# Altium footprint library TI - ADC.PcbLib: 213 footprints (part 6 of 14)
Each footprint in its own frame and in the unit in brackets; x right, y up, seen from the top. Pads: shape width x height; smd on the part's side, far side on the other; paste and mask are expansions set on the pad; w line width, h text height; cw(c..) or ccw(c..) is an arc to the next point about the centre after c.
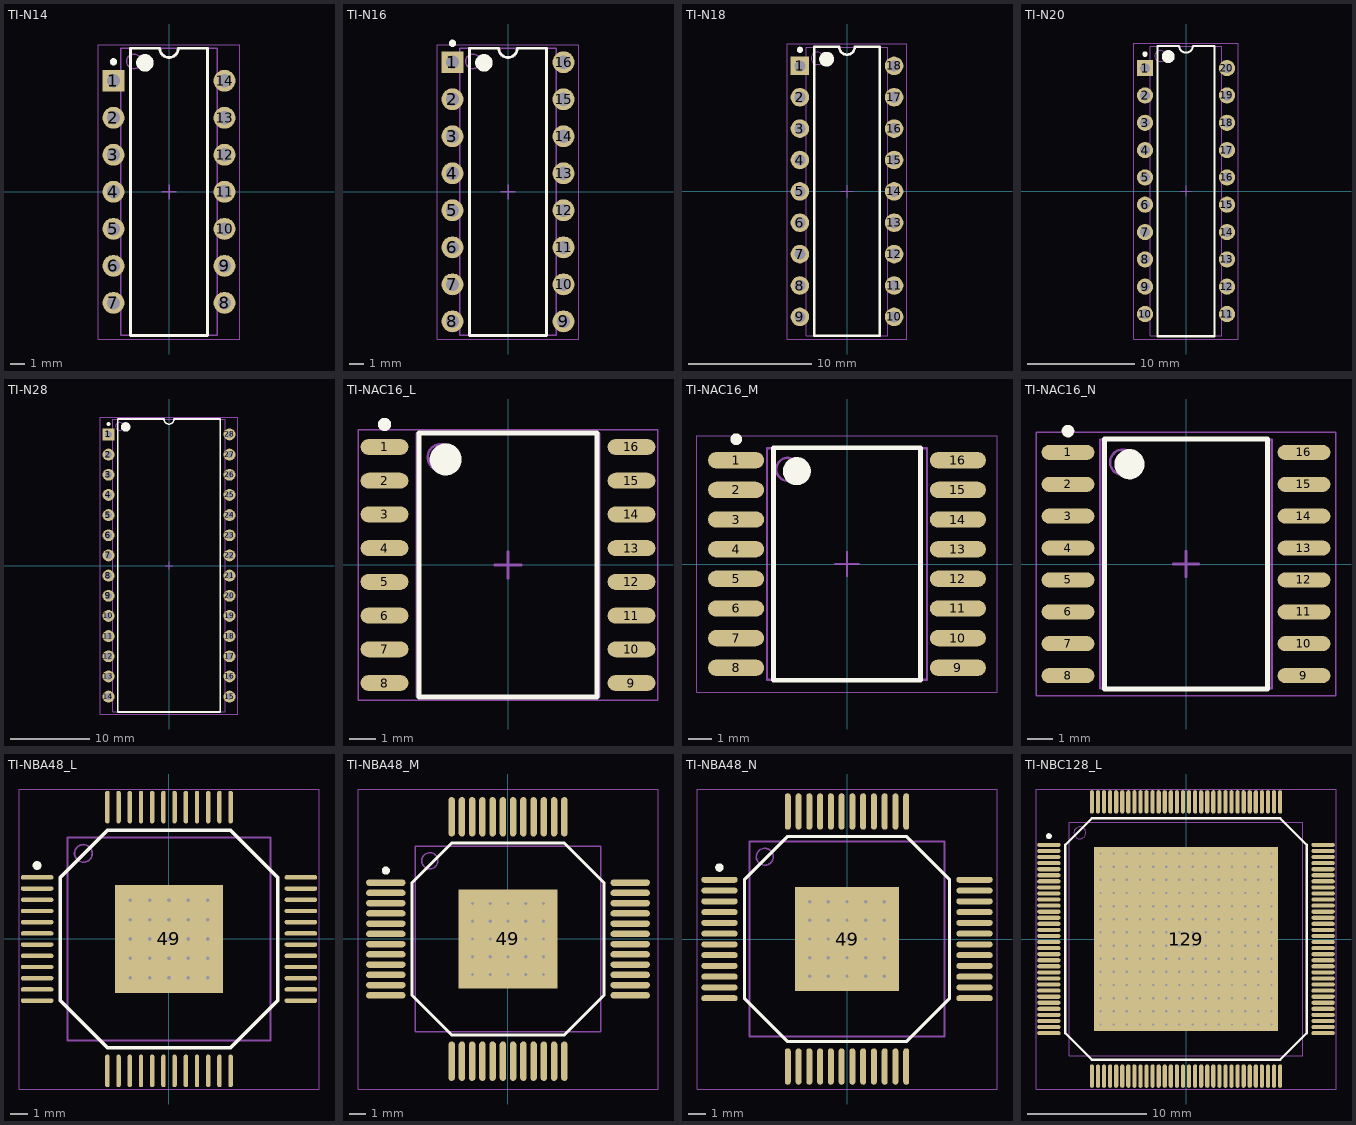
[diagram p5: the footprints below, top view; thin cyan lines are the x and y axes]

## TI-N14 [mm] "DIP, 14-Leads, Body 19.305x6.35mm, Pitch 2.54mm"
height 5.08
pads (14):
  rect 1.5x1.5 hole 0.9: 1(-3.81,7.62)
  round 1.5 hole 0.9: 2(-3.81,5.08) 3(-3.81,2.54) 4(-3.81,0) 5(-3.81,-2.54) 6(-3.81,-5.08) 7(-3.81,-7.62) 8(3.81,-7.62) 9(3.81,-5.08) 10(3.81,-2.54) 11(3.81,0) 12(3.81,2.54) 13(3.81,5.08) 14(3.81,7.62)
Top Overlay:
  circle w0.25: c-3.81,8.92 r0.125
  circle w0.6: c-1.65,8.85 r0.3
  lines w0.2: -2.65,-9.85 -2.65,9.85 -0.635,9.85 ccw(c0,9.85) 0.635,9.85 2.65,9.85 2.65,-9.85 -2.65,-9.85
Mechanical 13:
  circle w0.1: c-2.4,8.95 r0.5
  lines w0.1: -3.3,-9.85 -3.3,9.85 3.3,9.85 3.3,-9.85 -3.3,-9.85
Mechanical 15:
  lines w0.05: -4.85,-10.1 -4.85,10.1 4.85,10.1 4.85,-10.1 -4.85,-10.1
  lines w0.1: -0.5,0 0.5,0 ; 0,-0.5 0,0.5
3D body: height 5.08, standoff 0.51, extent -3.3,-9.85 3.3,9.85

## TI-N16 [mm] "DIP, 16-Leads, Body 19.305x6.35mm, Pitch 2.54mm"
height 5.08
pads (16):
  rect 1.5x1.5 hole 0.9: 1(-3.81,8.89)
  round 1.5 hole 0.9: 2(-3.81,6.35) 3(-3.81,3.81) 4(-3.81,1.27) 5(-3.81,-1.27) 6(-3.81,-3.81) 7(-3.81,-6.35) 8(-3.81,-8.89) 9(3.81,-8.89) 10(3.81,-6.35) 11(3.81,-3.81) 12(3.81,-1.27) 13(3.81,1.27) 14(3.81,3.81) 15(3.81,6.35) 16(3.81,8.89)
Top Overlay:
  circle w0.25: c-3.81,10.19 r0.125
  circle w0.6: c-1.65,8.85 r0.3
  lines w0.2: -2.65,-9.85 -2.65,9.85 -0.635,9.85 ccw(c0,9.85) 0.635,9.85 2.65,9.85 2.65,-9.85 -2.65,-9.85
Mechanical 13:
  circle w0.1: c-2.4,8.95 r0.5
  lines w0.1: -3.3,-9.85 -3.3,9.85 3.3,9.85 3.3,-9.85 -3.3,-9.85
Mechanical 15:
  lines w0.05: -4.85,-10.1 -4.85,10.1 4.85,10.1 4.85,-10.1 -4.85,-10.1
  lines w0.1: -0.5,0 0.5,0 ; 0,-0.5 0,0.5
3D body: height 2.66, standoff 0, extent -3.945,8.39 -3.675,9.39
3D body: height 2.93, standoff 2.66, extent -3.945,8.39 -3.3,9.39
3D body: height 0, standoff -1.6, extent -3.945,8.53 -3.675,9.25
3D body: height 2.66, standoff 0, extent -3.945,5.85 -3.675,6.85
3D body: height 2.93, standoff 2.66, extent -3.945,5.85 -3.3,6.85
3D body: height 0, standoff -1.6, extent -3.945,5.99 -3.675,6.71
3D body: height 2.66, standoff 0, extent -3.945,3.31 -3.675,4.31
3D body: height 2.93, standoff 2.66, extent -3.945,3.31 -3.3,4.31
3D body: height 0, standoff -1.6, extent -3.945,3.45 -3.675,4.17
3D body: height 2.66, standoff 0, extent -3.945,0.77 -3.675,1.77
3D body: height 2.93, standoff 2.66, extent -3.945,0.77 -3.3,1.77
3D body: height 0, standoff -1.6, extent -3.945,0.91 -3.675,1.63
3D body: height 2.66, standoff 0, extent -3.945,-1.77 -3.675,-0.77
3D body: height 2.93, standoff 2.66, extent -3.945,-1.77 -3.3,-0.77
3D body: height 0, standoff -1.6, extent -3.945,-1.63 -3.675,-0.91
3D body: height 2.66, standoff 0, extent -3.945,-4.31 -3.675,-3.31
3D body: height 2.93, standoff 2.66, extent -3.945,-4.31 -3.3,-3.31
3D body: height 0, standoff -1.6, extent -3.945,-4.17 -3.675,-3.45
3D body: height 2.66, standoff 0, extent -3.945,-6.85 -3.675,-5.85
3D body: height 2.93, standoff 2.66, extent -3.945,-6.85 -3.3,-5.85
3D body: height 0, standoff -1.6, extent -3.945,-6.71 -3.675,-5.99
3D body: height 2.66, standoff 0, extent -3.945,-9.39 -3.675,-8.39
3D body: height 2.93, standoff 2.66, extent -3.945,-9.39 -3.3,-8.39
3D body: height 0, standoff -1.6, extent -3.945,-9.25 -3.675,-8.53
3D body: height 2.66, standoff 0, extent 3.675,-9.39 3.945,-8.39
3D body: height 2.93, standoff 2.66, extent 3.3,-9.39 3.945,-8.39
3D body: height 0, standoff -1.6, extent 3.675,-9.25 3.945,-8.53
3D body: height 2.66, standoff 0, extent 3.675,-6.85 3.945,-5.85
3D body: height 2.93, standoff 2.66, extent 3.3,-6.85 3.945,-5.85
3D body: height 0, standoff -1.6, extent 3.675,-6.71 3.945,-5.99
3D body: height 2.66, standoff 0, extent 3.675,-4.31 3.945,-3.31
3D body: height 2.93, standoff 2.66, extent 3.3,-4.31 3.945,-3.31
3D body: height 0, standoff -1.6, extent 3.675,-4.17 3.945,-3.45
3D body: height 2.66, standoff 0, extent 3.675,-1.77 3.945,-0.77
3D body: height 2.93, standoff 2.66, extent 3.3,-1.77 3.945,-0.77
3D body: height 0, standoff -1.6, extent 3.675,-1.63 3.945,-0.91
3D body: height 2.66, standoff 0, extent 3.675,0.77 3.945,1.77
3D body: height 2.93, standoff 2.66, extent 3.3,0.77 3.945,1.77
3D body: height 0, standoff -1.6, extent 3.675,0.91 3.945,1.63
3D body: height 2.66, standoff 0, extent 3.675,3.31 3.945,4.31
3D body: height 2.93, standoff 2.66, extent 3.3,3.31 3.945,4.31
3D body: height 0, standoff -1.6, extent 3.675,3.45 3.945,4.17
3D body: height 2.66, standoff 0, extent 3.675,5.85 3.945,6.85
3D body: height 2.93, standoff 2.66, extent 3.3,5.85 3.945,6.85
3D body: height 0, standoff -1.6, extent 3.675,5.99 3.945,6.71
3D body: height 2.66, standoff 0, extent 3.675,8.39 3.945,9.39
3D body: height 2.93, standoff 2.66, extent 3.3,8.39 3.945,9.39
3D body: height 0, standoff -1.6, extent 3.675,8.53 3.945,9.25
3D body: height 5.08, standoff 0.51, extent -3.3,-9.85 3.3,9.85

## TI-N18 [mm] "DIP, 18-Leads, Body 22.48x6.35 mm, Pitch 2.54 mm"
height 5.08
pads (18):
  rect 1.5x1.5 hole 0.9: 1(-3.81,10.16)
  round 1.5 hole 0.9: 2(-3.81,7.62) 3(-3.81,5.08) 4(-3.81,2.54) 5(-3.81,0) 6(-3.81,-2.54) 7(-3.81,-5.08) 8(-3.81,-7.62) 9(-3.81,-10.16) 10(3.81,-10.16) 11(3.81,-7.62) 12(3.81,-5.08) 13(3.81,-2.54) 14(3.81,0) 15(3.81,2.54) 16(3.81,5.08) 17(3.81,7.62) 18(3.81,10.16)
Top Overlay:
  circle w0.6: c-1.65,10.7 r0.3
  circle w0.25: c-3.81,11.46 r0.125
  lines w0.2: -2.65,-11.7 2.65,-11.7 2.65,11.7 0.635,11.7 cw(c0,11.7) -0.635,11.7 -2.65,11.7 -2.65,-11.7
Mechanical 13:
  circle w0.1: c-2.4,10.775 r0.5
  lines w0.1: -3.3,-11.675 3.3,-11.675 3.3,11.675 -3.3,11.675 -3.3,-11.675
Mechanical 15:
  lines w0.05: -4.85,-11.95 4.85,-11.95 4.85,11.95 -4.85,11.95 -4.85,-11.95
  lines w0.1: -0.5,0 0.5,0 ; 0,-0.5 0,0.5
3D body: height 5.08, standoff 0.51, extent -3.3,-11.675 3.3,11.675
3D body: height 0, standoff -1.6, extent 3.675,9.8 3.945,10.52
3D body: height 2.93, standoff 2.66, extent 3.3,9.66 3.945,10.66
3D body: height 2.66, standoff 0, extent 3.675,9.66 3.945,10.66
3D body: height 0, standoff -1.6, extent 3.675,7.26 3.945,7.98
3D body: height 2.93, standoff 2.66, extent 3.3,7.12 3.945,8.12
3D body: height 2.66, standoff 0, extent 3.675,7.12 3.945,8.12
3D body: height 0, standoff -1.6, extent 3.675,4.72 3.945,5.44
3D body: height 2.93, standoff 2.66, extent 3.3,4.58 3.945,5.58
3D body: height 2.66, standoff 0, extent 3.675,4.58 3.945,5.58
3D body: height 0, standoff -1.6, extent 3.675,2.18 3.945,2.9
3D body: height 2.93, standoff 2.66, extent 3.3,2.04 3.945,3.04
3D body: height 2.66, standoff 0, extent 3.675,2.04 3.945,3.04
3D body: height 0, standoff -1.6, extent 3.675,-0.36 3.945,0.36
3D body: height 2.93, standoff 2.66, extent 3.3,-0.5 3.945,0.5
3D body: height 2.66, standoff 0, extent 3.675,-0.5 3.945,0.5
3D body: height 0, standoff -1.6, extent 3.675,-2.9 3.945,-2.18
3D body: height 2.93, standoff 2.66, extent 3.3,-3.04 3.945,-2.04
3D body: height 2.66, standoff 0, extent 3.675,-3.04 3.945,-2.04
3D body: height 0, standoff -1.6, extent 3.675,-5.44 3.945,-4.72
3D body: height 2.93, standoff 2.66, extent 3.3,-5.58 3.945,-4.58
3D body: height 2.66, standoff 0, extent 3.675,-5.58 3.945,-4.58
3D body: height 0, standoff -1.6, extent 3.675,-7.98 3.945,-7.26
3D body: height 2.93, standoff 2.66, extent 3.3,-8.12 3.945,-7.12
3D body: height 2.66, standoff 0, extent 3.675,-8.12 3.945,-7.12
3D body: height 0, standoff -1.6, extent 3.675,-10.52 3.945,-9.8
3D body: height 2.93, standoff 2.66, extent 3.3,-10.66 3.945,-9.66
3D body: height 2.66, standoff 0, extent 3.675,-10.66 3.945,-9.66
3D body: height 0, standoff -1.6, extent -3.945,-10.52 -3.675,-9.8
3D body: height 2.93, standoff 2.66, extent -3.945,-10.66 -3.3,-9.66
3D body: height 2.66, standoff 0, extent -3.945,-10.66 -3.675,-9.66
3D body: height 0, standoff -1.6, extent -3.945,-7.98 -3.675,-7.26
3D body: height 2.93, standoff 2.66, extent -3.945,-8.12 -3.3,-7.12
3D body: height 2.66, standoff 0, extent -3.945,-8.12 -3.675,-7.12
3D body: height 0, standoff -1.6, extent -3.945,-5.44 -3.675,-4.72
3D body: height 2.93, standoff 2.66, extent -3.945,-5.58 -3.3,-4.58
3D body: height 2.66, standoff 0, extent -3.945,-5.58 -3.675,-4.58
3D body: height 0, standoff -1.6, extent -3.945,-2.9 -3.675,-2.18
3D body: height 2.93, standoff 2.66, extent -3.945,-3.04 -3.3,-2.04
3D body: height 2.66, standoff 0, extent -3.945,-3.04 -3.675,-2.04
3D body: height 0, standoff -1.6, extent -3.945,-0.36 -3.675,0.36
3D body: height 2.93, standoff 2.66, extent -3.945,-0.5 -3.3,0.5
3D body: height 2.66, standoff 0, extent -3.945,-0.5 -3.675,0.5
3D body: height 0, standoff -1.6, extent -3.945,2.18 -3.675,2.9
3D body: height 2.93, standoff 2.66, extent -3.945,2.04 -3.3,3.04
3D body: height 2.66, standoff 0, extent -3.945,2.04 -3.675,3.04
3D body: height 0, standoff -1.6, extent -3.945,4.72 -3.675,5.44
3D body: height 2.93, standoff 2.66, extent -3.945,4.58 -3.3,5.58
3D body: height 2.66, standoff 0, extent -3.945,4.58 -3.675,5.58
3D body: height 0, standoff -1.6, extent -3.945,7.26 -3.675,7.98
3D body: height 2.93, standoff 2.66, extent -3.945,7.12 -3.3,8.12
3D body: height 2.66, standoff 0, extent -3.945,7.12 -3.675,8.12
3D body: height 0, standoff -1.6, extent -3.945,9.8 -3.675,10.52
3D body: height 2.93, standoff 2.66, extent -3.945,9.66 -3.3,10.66
3D body: height 2.66, standoff 0, extent -3.945,9.66 -3.675,10.66

## TI-N20 [mm] "DIP, 20-Leads, Body 25.4x6.35 mm, Pitch 2.54 mm"
height 5.08
pads (20):
  rect 1.5x1.5 hole 0.9: 1(-3.81,11.43)
  round 1.5 hole 0.9: 2(-3.81,8.89) 3(-3.81,6.35) 4(-3.81,3.81) 5(-3.81,1.27) 6(-3.81,-1.27) 7(-3.81,-3.81) 8(-3.81,-6.35) 9(-3.81,-8.89) 10(-3.81,-11.43) 11(3.81,-11.43) 12(3.81,-8.89) 13(3.81,-6.35) 14(3.81,-3.81) 15(3.81,-1.27) 16(3.81,1.27) 17(3.81,3.81) 18(3.81,6.35) 19(3.81,8.89) 20(3.81,11.43)
Top Overlay:
  circle w0.25: c-3.81,12.73 r0.125
  circle w0.6: c-1.65,12.5 r0.3
  lines w0.2: -2.65,-13.5 -2.65,13.5 -0.635,13.5 ccw(c0,13.5) 0.635,13.5 2.65,13.5 2.65,-13.5 -2.65,-13.5
Mechanical 13:
  circle w0.1: c-2.4,12.55 r0.5
  lines w0.1: -3.3,-13.45 -3.3,13.45 3.3,13.45 3.3,-13.45 -3.3,-13.45
Mechanical 15:
  lines w0.05: -4.85,-13.75 -4.85,13.75 4.85,13.75 4.85,-13.75 -4.85,-13.75
  lines w0.1: -0.5,0 0.5,0 ; 0,-0.5 0,0.5
3D body: height 2.66, standoff 0, extent -3.945,10.93 -3.675,11.93
3D body: height 2.93, standoff 2.66, extent -3.945,10.93 -3.3,11.93
3D body: height 0, standoff -1.6, extent -3.945,11.07 -3.675,11.79
3D body: height 2.66, standoff 0, extent -3.945,8.39 -3.675,9.39
3D body: height 2.93, standoff 2.66, extent -3.945,8.39 -3.3,9.39
3D body: height 0, standoff -1.6, extent -3.945,8.53 -3.675,9.25
3D body: height 2.66, standoff 0, extent -3.945,5.85 -3.675,6.85
3D body: height 2.93, standoff 2.66, extent -3.945,5.85 -3.3,6.85
3D body: height 0, standoff -1.6, extent -3.945,5.99 -3.675,6.71
3D body: height 2.66, standoff 0, extent -3.945,3.31 -3.675,4.31
3D body: height 2.93, standoff 2.66, extent -3.945,3.31 -3.3,4.31
3D body: height 0, standoff -1.6, extent -3.945,3.45 -3.675,4.17
3D body: height 2.66, standoff 0, extent -3.945,0.77 -3.675,1.77
3D body: height 2.93, standoff 2.66, extent -3.945,0.77 -3.3,1.77
3D body: height 0, standoff -1.6, extent -3.945,0.91 -3.675,1.63
3D body: height 2.66, standoff 0, extent -3.945,-1.77 -3.675,-0.77
3D body: height 2.93, standoff 2.66, extent -3.945,-1.77 -3.3,-0.77
3D body: height 0, standoff -1.6, extent -3.945,-1.63 -3.675,-0.91
3D body: height 2.66, standoff 0, extent -3.945,-4.31 -3.675,-3.31
3D body: height 2.93, standoff 2.66, extent -3.945,-4.31 -3.3,-3.31
3D body: height 0, standoff -1.6, extent -3.945,-4.17 -3.675,-3.45
3D body: height 2.66, standoff 0, extent -3.945,-6.85 -3.675,-5.85
3D body: height 2.93, standoff 2.66, extent -3.945,-6.85 -3.3,-5.85
3D body: height 0, standoff -1.6, extent -3.945,-6.71 -3.675,-5.99
3D body: height 2.66, standoff 0, extent -3.945,-9.39 -3.675,-8.39
3D body: height 2.93, standoff 2.66, extent -3.945,-9.39 -3.3,-8.39
3D body: height 0, standoff -1.6, extent -3.945,-9.25 -3.675,-8.53
3D body: height 2.66, standoff 0, extent -3.945,-11.93 -3.675,-10.93
3D body: height 2.93, standoff 2.66, extent -3.945,-11.93 -3.3,-10.93
3D body: height 0, standoff -1.6, extent -3.945,-11.79 -3.675,-11.07
3D body: height 2.66, standoff 0, extent 3.675,-11.93 3.945,-10.93
3D body: height 2.93, standoff 2.66, extent 3.3,-11.93 3.945,-10.93
3D body: height 0, standoff -1.6, extent 3.675,-11.79 3.945,-11.07
3D body: height 2.66, standoff 0, extent 3.675,-9.39 3.945,-8.39
3D body: height 2.93, standoff 2.66, extent 3.3,-9.39 3.945,-8.39
3D body: height 0, standoff -1.6, extent 3.675,-9.25 3.945,-8.53
3D body: height 2.66, standoff 0, extent 3.675,-6.85 3.945,-5.85
3D body: height 2.93, standoff 2.66, extent 3.3,-6.85 3.945,-5.85
3D body: height 0, standoff -1.6, extent 3.675,-6.71 3.945,-5.99
3D body: height 2.66, standoff 0, extent 3.675,-4.31 3.945,-3.31
3D body: height 2.93, standoff 2.66, extent 3.3,-4.31 3.945,-3.31
3D body: height 0, standoff -1.6, extent 3.675,-4.17 3.945,-3.45
3D body: height 2.66, standoff 0, extent 3.675,-1.77 3.945,-0.77
3D body: height 2.93, standoff 2.66, extent 3.3,-1.77 3.945,-0.77
3D body: height 0, standoff -1.6, extent 3.675,-1.63 3.945,-0.91
3D body: height 2.66, standoff 0, extent 3.675,0.77 3.945,1.77
3D body: height 2.93, standoff 2.66, extent 3.3,0.77 3.945,1.77
3D body: height 0, standoff -1.6, extent 3.675,0.91 3.945,1.63
3D body: height 2.66, standoff 0, extent 3.675,3.31 3.945,4.31
3D body: height 2.93, standoff 2.66, extent 3.3,3.31 3.945,4.31
3D body: height 0, standoff -1.6, extent 3.675,3.45 3.945,4.17
3D body: height 2.66, standoff 0, extent 3.675,5.85 3.945,6.85
3D body: height 2.93, standoff 2.66, extent 3.3,5.85 3.945,6.85
3D body: height 0, standoff -1.6, extent 3.675,5.99 3.945,6.71
3D body: height 2.66, standoff 0, extent 3.675,8.39 3.945,9.39
3D body: height 2.93, standoff 2.66, extent 3.3,8.39 3.945,9.39
3D body: height 0, standoff -1.6, extent 3.675,8.53 3.945,9.25
3D body: height 2.66, standoff 0, extent 3.675,10.93 3.945,11.93
3D body: height 2.93, standoff 2.66, extent 3.3,10.93 3.945,11.93
3D body: height 0, standoff -1.6, extent 3.675,11.07 3.945,11.79
3D body: height 5.08, standoff 0.51, extent -3.3,-13.45 3.3,13.45

## TI-N28 [mm] "DIP, 28-Leads, Body 36.32x13.715 mm, Pitch 2.54 mm"
height 5.08
pads (28):
  rect 1.5x1.5 hole 0.9: 1(-7.62,16.51)
  round 1.5 hole 0.9: 2(-7.62,13.97) 3(-7.62,11.43) 4(-7.62,8.89) 5(-7.62,6.35) 6(-7.62,3.81) 7(-7.62,1.27) 8(-7.62,-1.27) 9(-7.62,-3.81) 10(-7.62,-6.35) 11(-7.62,-8.89) 12(-7.62,-11.43) 13(-7.62,-13.97) 14(-7.62,-16.51) 15(7.62,-16.51) 16(7.62,-13.97) 17(7.62,-11.43) 18(7.62,-8.89) 19(7.62,-6.35) 20(7.62,-3.81) 21(7.62,-1.27) 22(7.62,1.27) 23(7.62,3.81) 24(7.62,6.35) 25(7.62,8.89) 26(7.62,11.43) 27(7.62,13.97) 28(7.62,16.51)
Top Overlay:
  circle w0.25: c-7.62,17.81 r0.125
  circle w0.6: c-5.45,17.45 r0.3
  lines w0.2: -6.45,-18.45 -6.45,18.45 -0.635,18.45 ccw(c0,18.45) 0.635,18.45 6.45,18.45 6.45,-18.45 -6.45,-18.45
Mechanical 13:
  circle w0.1: c-6.2,17.525 r0.5
  lines w0.1: -7.1,-18.425 -7.1,18.425 7.1,18.425 7.1,-18.425 -7.1,-18.425
Mechanical 15:
  lines w0.05: -8.65,-18.7 -8.65,18.7 8.65,18.7 8.65,-18.7 -8.65,-18.7
  lines w0.1: -0.5,0 0.5,0 ; 0,-0.5 0,0.5
3D body: height 2.66, standoff 0, extent -7.755,16.01 -7.485,17.01
3D body: height 2.93, standoff 2.66, extent -7.755,16.01 -7.1,17.01
3D body: height 0, standoff -1.6, extent -7.755,16.15 -7.485,16.87
3D body: height 2.66, standoff 0, extent -7.755,13.47 -7.485,14.47
3D body: height 2.93, standoff 2.66, extent -7.755,13.47 -7.1,14.47
3D body: height 0, standoff -1.6, extent -7.755,13.61 -7.485,14.33
3D body: height 2.66, standoff 0, extent -7.755,10.93 -7.485,11.93
3D body: height 2.93, standoff 2.66, extent -7.755,10.93 -7.1,11.93
3D body: height 0, standoff -1.6, extent -7.755,11.07 -7.485,11.79
3D body: height 2.66, standoff 0, extent -7.755,8.39 -7.485,9.39
3D body: height 2.93, standoff 2.66, extent -7.755,8.39 -7.1,9.39
3D body: height 0, standoff -1.6, extent -7.755,8.53 -7.485,9.25
3D body: height 2.66, standoff 0, extent -7.755,5.85 -7.485,6.85
3D body: height 2.93, standoff 2.66, extent -7.755,5.85 -7.1,6.85
3D body: height 0, standoff -1.6, extent -7.755,5.99 -7.485,6.71
3D body: height 2.66, standoff 0, extent -7.755,3.31 -7.485,4.31
3D body: height 2.93, standoff 2.66, extent -7.755,3.31 -7.1,4.31
3D body: height 0, standoff -1.6, extent -7.755,3.45 -7.485,4.17
3D body: height 2.66, standoff 0, extent -7.755,0.77 -7.485,1.77
3D body: height 2.93, standoff 2.66, extent -7.755,0.77 -7.1,1.77
3D body: height 0, standoff -1.6, extent -7.755,0.91 -7.485,1.63
3D body: height 2.66, standoff 0, extent -7.755,-1.77 -7.485,-0.77
3D body: height 2.93, standoff 2.66, extent -7.755,-1.77 -7.1,-0.77
3D body: height 0, standoff -1.6, extent -7.755,-1.63 -7.485,-0.91
3D body: height 2.66, standoff 0, extent -7.755,-4.31 -7.485,-3.31
3D body: height 2.93, standoff 2.66, extent -7.755,-4.31 -7.1,-3.31
3D body: height 0, standoff -1.6, extent -7.755,-4.17 -7.485,-3.45
3D body: height 2.66, standoff 0, extent -7.755,-6.85 -7.485,-5.85
3D body: height 2.93, standoff 2.66, extent -7.755,-6.85 -7.1,-5.85
3D body: height 0, standoff -1.6, extent -7.755,-6.71 -7.485,-5.99
3D body: height 2.66, standoff 0, extent -7.755,-9.39 -7.485,-8.39
3D body: height 2.93, standoff 2.66, extent -7.755,-9.39 -7.1,-8.39
3D body: height 0, standoff -1.6, extent -7.755,-9.25 -7.485,-8.53
3D body: height 2.66, standoff 0, extent -7.755,-11.93 -7.485,-10.93
3D body: height 2.93, standoff 2.66, extent -7.755,-11.93 -7.1,-10.93
3D body: height 0, standoff -1.6, extent -7.755,-11.79 -7.485,-11.07
3D body: height 2.66, standoff 0, extent -7.755,-14.47 -7.485,-13.47
3D body: height 2.93, standoff 2.66, extent -7.755,-14.47 -7.1,-13.47
3D body: height 0, standoff -1.6, extent -7.755,-14.33 -7.485,-13.61
3D body: height 2.66, standoff 0, extent -7.755,-17.01 -7.485,-16.01
3D body: height 2.93, standoff 2.66, extent -7.755,-17.01 -7.1,-16.01
3D body: height 0, standoff -1.6, extent -7.755,-16.87 -7.485,-16.15
3D body: height 2.66, standoff 0, extent 7.485,-17.01 7.755,-16.01
3D body: height 2.93, standoff 2.66, extent 7.1,-17.01 7.755,-16.01
3D body: height 0, standoff -1.6, extent 7.485,-16.87 7.755,-16.15
3D body: height 2.66, standoff 0, extent 7.485,-14.47 7.755,-13.47
3D body: height 2.93, standoff 2.66, extent 7.1,-14.47 7.755,-13.47
3D body: height 0, standoff -1.6, extent 7.485,-14.33 7.755,-13.61
3D body: height 2.66, standoff 0, extent 7.485,-11.93 7.755,-10.93
3D body: height 2.93, standoff 2.66, extent 7.1,-11.93 7.755,-10.93
3D body: height 0, standoff -1.6, extent 7.485,-11.79 7.755,-11.07
3D body: height 2.66, standoff 0, extent 7.485,-9.39 7.755,-8.39
3D body: height 2.93, standoff 2.66, extent 7.1,-9.39 7.755,-8.39
3D body: height 0, standoff -1.6, extent 7.485,-9.25 7.755,-8.53
3D body: height 2.66, standoff 0, extent 7.485,-6.85 7.755,-5.85
3D body: height 2.93, standoff 2.66, extent 7.1,-6.85 7.755,-5.85
3D body: height 0, standoff -1.6, extent 7.485,-6.71 7.755,-5.99
3D body: height 2.66, standoff 0, extent 7.485,-4.31 7.755,-3.31
3D body: height 2.93, standoff 2.66, extent 7.1,-4.31 7.755,-3.31
3D body: height 0, standoff -1.6, extent 7.485,-4.17 7.755,-3.45
3D body: height 2.66, standoff 0, extent 7.485,-1.77 7.755,-0.77
3D body: height 2.93, standoff 2.66, extent 7.1,-1.77 7.755,-0.77
3D body: height 0, standoff -1.6, extent 7.485,-1.63 7.755,-0.91
3D body: height 2.66, standoff 0, extent 7.485,0.77 7.755,1.77
3D body: height 2.93, standoff 2.66, extent 7.1,0.77 7.755,1.77
3D body: height 0, standoff -1.6, extent 7.485,0.91 7.755,1.63
3D body: height 2.66, standoff 0, extent 7.485,3.31 7.755,4.31
3D body: height 2.93, standoff 2.66, extent 7.1,3.31 7.755,4.31
3D body: height 0, standoff -1.6, extent 7.485,3.45 7.755,4.17
3D body: height 2.66, standoff 0, extent 7.485,5.85 7.755,6.85
3D body: height 2.93, standoff 2.66, extent 7.1,5.85 7.755,6.85
3D body: height 0, standoff -1.6, extent 7.485,5.99 7.755,6.71
3D body: height 2.66, standoff 0, extent 7.485,8.39 7.755,9.39
3D body: height 2.93, standoff 2.66, extent 7.1,8.39 7.755,9.39
3D body: height 0, standoff -1.6, extent 7.485,8.53 7.755,9.25
3D body: height 2.66, standoff 0, extent 7.485,10.93 7.755,11.93
3D body: height 2.93, standoff 2.66, extent 7.1,10.93 7.755,11.93
3D body: height 0, standoff -1.6, extent 7.485,11.07 7.755,11.79
3D body: height 2.66, standoff 0, extent 7.485,13.47 7.755,14.47
3D body: height 2.93, standoff 2.66, extent 7.1,13.47 7.755,14.47
3D body: height 0, standoff -1.6, extent 7.485,13.61 7.755,14.33
3D body: height 2.66, standoff 0, extent 7.485,16.01 7.755,17.01
3D body: height 2.93, standoff 2.66, extent 7.1,16.01 7.755,17.01
3D body: height 0, standoff -1.6, extent 7.485,16.15 7.755,16.87
3D body: height 5.08, standoff 0.51, extent -7.1,-18.425 7.1,18.425

## TI-NAC16_L [mm] "CFP, 16-Leads, Body 9.91x6.35mm, Pitch 1.27mm, IPC High Density"
height 2.13
pads (16):
  oval 1.8x0.6 smd: 1(-4.65,4.445) 2(-4.65,3.175) 3(-4.65,1.905) 4(-4.65,0.635) 5(-4.65,-0.635) 6(-4.65,-1.905) 7(-4.65,-3.175) 8(-4.65,-4.445) 9(4.65,-4.445) 10(4.65,-3.175) 11(4.65,-1.905) 12(4.65,-0.635) 13(4.65,0.635) 14(4.65,1.905) 15(4.65,3.175) 16(4.65,4.445)
Top Overlay:
  circle w0.6: c-2.35,3.975 r0.3
  circle w0.25: c-4.65,5.295 r0.125
  lines w0.2: -3.35,-4.975 -3.35,4.975 3.35,4.975 3.35,-4.975 -3.35,-4.975
Mechanical 13:
  circle w0.1: c-2.525,4.055 r0.5
  lines w0.1: -3.425,-4.955 -3.425,4.955 3.425,4.955 3.425,-4.955 -3.425,-4.955
Mechanical 15:
  lines w0.05: -5.65,-5.1 -5.65,5.1 5.65,5.1 5.65,-5.1 -5.65,-5.1
  lines w0.1: -0.5,0 0.5,0 ; 0,-0.5 0,0.5
3D body: height 2.13, standoff 0.1, extent -3.425,-4.955 3.425,4.955

## TI-NAC16_M [mm] "CFP, 16-Leads, Body 9.91x6.35mm, Pitch 1.27mm, IPC Low Density"
height 2.13
pads (16):
  oval 2.4x0.7 smd: 1(-4.75,4.445) 2(-4.75,3.175) 3(-4.75,1.905) 4(-4.75,0.635) 5(-4.75,-0.635) 6(-4.75,-1.905) 7(-4.75,-3.175) 8(-4.75,-4.445) 9(4.75,-4.445) 10(4.75,-3.175) 11(4.75,-1.905) 12(4.75,-0.635) 13(4.75,0.635) 14(4.75,1.905) 15(4.75,3.175) 16(4.75,4.445)
Top Overlay:
  circle w0.25: c-4.75,5.345 r0.125
  circle w0.6: c-2.15,3.975 r0.3
  lines w0.2: -3.15,-4.975 3.15,-4.975 3.15,4.975 -3.15,4.975 -3.15,-4.975
Mechanical 13:
  circle w0.1: c-2.525,4.055 r0.5
  lines w0.1: -3.425,-4.955 3.425,-4.955 3.425,4.955 -3.425,4.955 -3.425,-4.955
Mechanical 15:
  lines w0.05: -6.425,-5.5 6.425,-5.5 6.425,5.5 -6.425,5.5 -6.425,-5.5
  lines w0.1: -0.5,0 0.5,0 ; 0,-0.5 0,0.5
3D body: height 2.13, standoff 0.1, extent -3.425,-4.955 3.425,4.955

## TI-NAC16_N [mm] "CFP, 16-Leads, Body 9.91x6.35mm, Pitch 1.27mm, IPC Medium Density"
height 2.13
pads (16):
  oval 2.1x0.6 smd: 1(-4.7,4.445) 2(-4.7,3.175) 3(-4.7,1.905) 4(-4.7,0.635) 5(-4.7,-0.635) 6(-4.7,-1.905) 7(-4.7,-3.175) 8(-4.7,-4.445) 9(4.7,-4.445) 10(4.7,-3.175) 11(4.7,-1.905) 12(4.7,-0.635) 13(4.7,0.635) 14(4.7,1.905) 15(4.7,3.175) 16(4.7,4.445)
Top Overlay:
  circle w0.25: c-4.7,5.295 r0.125
  circle w0.6: c-2.25,3.975 r0.3
  lines w0.2: -3.25,-4.975 3.25,-4.975 3.25,4.975 -3.25,4.975 -3.25,-4.975
Mechanical 13:
  circle w0.1: c-2.525,4.055 r0.5
  lines w0.1: -3.425,-4.955 3.425,-4.955 3.425,4.955 -3.425,4.955 -3.425,-4.955
Mechanical 15:
  lines w0.05: -5.975,-5.25 5.975,-5.25 5.975,5.25 -5.975,5.25 -5.975,-5.25
  lines w0.1: -0.5,0 0.5,0 ; 0,-0.5 0,0.5
3D body: height 2.13, standoff 0.1, extent -3.425,-4.955 3.425,4.955

## TI-NBA48_L [mm] "CQFP, 48-Leads, Body 11.5x11.5mm, Pitch 0.635mm, Thermal Pad 6.13x6.13mm, IPC High Density"
height 2.77
pads (49):
  oval 1.85x0.25 smd: 1(-7.475,3.492) 2(-7.475,2.857) 3(-7.475,2.222) 4(-7.475,1.587) 5(-7.475,0.953) 6(-7.475,0.318) 7(-7.475,-0.318) 8(-7.475,-0.953) 9(-7.475,-1.587) 10(-7.475,-2.222) 11(-7.475,-2.857) 12(-7.475,-3.492) 25(7.475,-3.492) 26(7.475,-2.857) 27(7.475,-2.222) 28(7.475,-1.587) 29(7.475,-0.953) 30(7.475,-0.318) 31(7.475,0.318) 32(7.475,0.953) 33(7.475,1.587) 34(7.475,2.222) 35(7.475,2.857) 36(7.475,3.492)
  oval 0.25x1.85 smd: 13(-3.492,-7.475) 14(-2.857,-7.475) 15(-2.222,-7.475) 16(-1.587,-7.475) 17(-0.953,-7.475) 18(-0.318,-7.475) 19(0.318,-7.475) 20(0.953,-7.475) 21(1.587,-7.475) 22(2.222,-7.475) 23(2.857,-7.475) 24(3.492,-7.475) 37(3.492,7.475) 38(2.857,7.475) 39(2.222,7.475) 40(1.587,7.475) 41(0.953,7.475) 42(0.318,7.475) 43(-0.318,7.475) 44(-0.953,7.475) 45(-1.587,7.475) 46(-2.222,7.475) 47(-2.857,7.475) 48(-3.492,7.475)
  rect 6.13x6.13 smd: 49(0,0)
via 2.2,-2.2 diameter 0.5 hole 0.2
via 1.1,-2.2 diameter 0.5 hole 0.2
via 0,-2.2 diameter 0.5 hole 0.2
via -1.1,-2.2 diameter 0.5 hole 0.2
via -2.2,-2.2 diameter 0.5 hole 0.2
via 2.2,-1.1 diameter 0.5 hole 0.2
via 1.1,-1.1 diameter 0.5 hole 0.2
via 0,-1.1 diameter 0.5 hole 0.2
via -1.1,-1.1 diameter 0.5 hole 0.2
via -2.2,-1.1 diameter 0.5 hole 0.2
via 2.2,0 diameter 0.5 hole 0.2
via 1.1,0 diameter 0.5 hole 0.2
via 0,0 diameter 0.5 hole 0.2
via -1.1,0 diameter 0.5 hole 0.2
via -2.2,0 diameter 0.5 hole 0.2
via 2.2,1.1 diameter 0.5 hole 0.2
via 1.1,1.1 diameter 0.5 hole 0.2
via 0,1.1 diameter 0.5 hole 0.2
via -1.1,1.1 diameter 0.5 hole 0.2
via -2.2,1.1 diameter 0.5 hole 0.2
via 2.2,2.2 diameter 0.5 hole 0.2
via 1.1,2.2 diameter 0.5 hole 0.2
via 0,2.2 diameter 0.5 hole 0.2
via -1.1,2.2 diameter 0.5 hole 0.2
via -2.2,2.2 diameter 0.5 hole 0.2
Top Overlay:
  circle w0.25: c-7.475,4.167 r0.125
  lines w0.2: -6.15,-3.495 -3.495,-6.15 3.495,-6.15 6.15,-3.495 6.15,3.495 3.495,6.15 -3.495,6.15 -6.15,3.495 -6.15,-3.495
Mechanical 13:
  circle w0.1: c-4.85,4.85 r0.5
  lines w0.1: -5.75,-5.75 5.75,-5.75 5.75,5.75 -5.75,5.75 -5.75,-5.75
Mechanical 15:
  lines w0.05: -8.5,-8.5 8.5,-8.5 8.5,8.5 -8.5,8.5 -8.5,-8.5
  lines w0.1: -0.5,0 0.5,0 ; 0,-0.5 0,0.5
3D body: height 2.77, standoff 0.32, extent -5.75,-5.75 5.75,5.75

## TI-NBA48_M [mm] "CQFP, 48-Leads, Body 11.5x11.5mm, Pitch 0.635mm, Thermal Pad 6.13x6.13mm, IPC Low Density"
height 2.77
pads (49):
  oval 2.45x0.4 smd: 1(-7.575,3.492) 2(-7.575,2.857) 3(-7.575,2.222) 4(-7.575,1.587) 5(-7.575,0.953) 6(-7.575,0.318) 7(-7.575,-0.318) 8(-7.575,-0.953) 9(-7.575,-1.587) 10(-7.575,-2.222) 11(-7.575,-2.857) 12(-7.575,-3.492) 25(7.575,-3.492) 26(7.575,-2.857) 27(7.575,-2.222) 28(7.575,-1.587) 29(7.575,-0.953) 30(7.575,-0.318) 31(7.575,0.318) 32(7.575,0.953) 33(7.575,1.587) 34(7.575,2.222) 35(7.575,2.857) 36(7.575,3.492)
  oval 0.4x2.45 smd: 13(-3.492,-7.575) 14(-2.857,-7.575) 15(-2.222,-7.575) 16(-1.587,-7.575) 17(-0.953,-7.575) 18(-0.318,-7.575) 19(0.318,-7.575) 20(0.953,-7.575) 21(1.587,-7.575) 22(2.222,-7.575) 23(2.857,-7.575) 24(3.492,-7.575) 37(3.492,7.575) 38(2.857,7.575) 39(2.222,7.575) 40(1.587,7.575) 41(0.953,7.575) 42(0.318,7.575) 43(-0.318,7.575) 44(-0.953,7.575) 45(-1.587,7.575) 46(-2.222,7.575) 47(-2.857,7.575) 48(-3.492,7.575)
  rect 6.13x6.13 smd: 49(0,0)
via 2.2,-2.2 diameter 0.5 hole 0.2
via 1.1,-2.2 diameter 0.5 hole 0.2
via 0,-2.2 diameter 0.5 hole 0.2
via -1.1,-2.2 diameter 0.5 hole 0.2
via -2.2,-2.2 diameter 0.5 hole 0.2
via 2.2,-1.1 diameter 0.5 hole 0.2
via 1.1,-1.1 diameter 0.5 hole 0.2
via 0,-1.1 diameter 0.5 hole 0.2
via -1.1,-1.1 diameter 0.5 hole 0.2
via -2.2,-1.1 diameter 0.5 hole 0.2
via 2.2,0 diameter 0.5 hole 0.2
via 1.1,0 diameter 0.5 hole 0.2
via 0,0 diameter 0.5 hole 0.2
via -1.1,0 diameter 0.5 hole 0.2
via -2.2,0 diameter 0.5 hole 0.2
via 2.2,1.1 diameter 0.5 hole 0.2
via 1.1,1.1 diameter 0.5 hole 0.2
via 0,1.1 diameter 0.5 hole 0.2
via -1.1,1.1 diameter 0.5 hole 0.2
via -2.2,1.1 diameter 0.5 hole 0.2
via 2.2,2.2 diameter 0.5 hole 0.2
via 1.1,2.2 diameter 0.5 hole 0.2
via 0,2.2 diameter 0.5 hole 0.2
via -1.1,2.2 diameter 0.5 hole 0.2
via -2.2,2.2 diameter 0.5 hole 0.2
Top Overlay:
  circle w0.25: c-7.575,4.242 r0.125
  lines w0.2: -5.95,-3.495 -3.495,-5.95 3.495,-5.95 5.95,-3.495 5.95,3.495 3.495,5.95 -3.495,5.95 -5.95,3.495 -5.95,-3.495
Mechanical 13:
  circle w0.1: c-4.85,4.85 r0.5
  lines w0.1: -5.75,-5.75 5.75,-5.75 5.75,5.75 -5.75,5.75 -5.75,-5.75
Mechanical 15:
  lines w0.05: -9.3,-9.3 9.3,-9.3 9.3,9.3 -9.3,9.3 -9.3,-9.3
  lines w0.1: -0.5,0 0.5,0 ; 0,-0.5 0,0.5
3D body: height 2.77, standoff 0.32, extent -5.75,-5.75 5.75,5.75

## TI-NBA48_N [mm] "CQFP, 48-Leads, Body 11.5x11.5mm, Pitch 0.635mm, Thermal Pad 6.13x6.13mm, IPC Medium Density"
height 2.77
pads (49):
  oval 2.15x0.35 smd: 1(-7.525,3.492) 2(-7.525,2.857) 3(-7.525,2.222) 4(-7.525,1.587) 5(-7.525,0.953) 6(-7.525,0.318) 7(-7.525,-0.318) 8(-7.525,-0.953) 9(-7.525,-1.587) 10(-7.525,-2.222) 11(-7.525,-2.857) 12(-7.525,-3.492) 25(7.525,-3.492) 26(7.525,-2.857) 27(7.525,-2.222) 28(7.525,-1.587) 29(7.525,-0.953) 30(7.525,-0.318) 31(7.525,0.318) 32(7.525,0.953) 33(7.525,1.587) 34(7.525,2.222) 35(7.525,2.857) 36(7.525,3.492)
  oval 0.35x2.15 smd: 13(-3.492,-7.525) 14(-2.857,-7.525) 15(-2.222,-7.525) 16(-1.587,-7.525) 17(-0.953,-7.525) 18(-0.318,-7.525) 19(0.318,-7.525) 20(0.953,-7.525) 21(1.587,-7.525) 22(2.222,-7.525) 23(2.857,-7.525) 24(3.492,-7.525) 37(3.492,7.525) 38(2.857,7.525) 39(2.222,7.525) 40(1.587,7.525) 41(0.953,7.525) 42(0.318,7.525) 43(-0.318,7.525) 44(-0.953,7.525) 45(-1.587,7.525) 46(-2.222,7.525) 47(-2.857,7.525) 48(-3.492,7.525)
  rect 6.13x6.13 smd: 49(0,0)
via 2.2,-2.2 diameter 0.5 hole 0.2
via 1.1,-2.2 diameter 0.5 hole 0.2
via 0,-2.2 diameter 0.5 hole 0.2
via -1.1,-2.2 diameter 0.5 hole 0.2
via -2.2,-2.2 diameter 0.5 hole 0.2
via 2.2,-1.1 diameter 0.5 hole 0.2
via 1.1,-1.1 diameter 0.5 hole 0.2
via 0,-1.1 diameter 0.5 hole 0.2
via -1.1,-1.1 diameter 0.5 hole 0.2
via -2.2,-1.1 diameter 0.5 hole 0.2
via 2.2,0 diameter 0.5 hole 0.2
via 1.1,0 diameter 0.5 hole 0.2
via 0,0 diameter 0.5 hole 0.2
via -1.1,0 diameter 0.5 hole 0.2
via -2.2,0 diameter 0.5 hole 0.2
via 2.2,1.1 diameter 0.5 hole 0.2
via 1.1,1.1 diameter 0.5 hole 0.2
via 0,1.1 diameter 0.5 hole 0.2
via -1.1,1.1 diameter 0.5 hole 0.2
via -2.2,1.1 diameter 0.5 hole 0.2
via 2.2,2.2 diameter 0.5 hole 0.2
via 1.1,2.2 diameter 0.5 hole 0.2
via 0,2.2 diameter 0.5 hole 0.2
via -1.1,2.2 diameter 0.5 hole 0.2
via -2.2,2.2 diameter 0.5 hole 0.2
Top Overlay:
  circle w0.25: c-7.525,4.217 r0.125
  lines w0.2: -6.05,-3.495 -3.495,-6.05 3.495,-6.05 6.05,-3.495 6.05,3.495 3.495,6.05 -3.495,6.05 -6.05,3.495 -6.05,-3.495
Mechanical 13:
  circle w0.1: c-4.85,4.85 r0.5
  lines w0.1: -5.75,-5.75 5.75,-5.75 5.75,5.75 -5.75,5.75 -5.75,-5.75
Mechanical 15:
  lines w0.05: -8.85,-8.85 8.85,-8.85 8.85,8.85 -8.85,8.85 -8.85,-8.85
  lines w0.1: -0.5,0 0.5,0 ; 0,-0.5 0,0.5
3D body: height 2.77, standoff 0.32, extent -5.75,-5.75 5.75,5.75

## TI-NBC128_L [mm] "CQFP, 128-Leads, Body 19.558x19.558mm, Pitch 0.508mm, Thermal Pad 15.39 x 15.39 mm, IPC High Density"
height 1.99
pads (129):
  oval 1.95x0.35 smd: 1(-11.475,7.874) 2(-11.475,7.366) 3(-11.475,6.858) 4(-11.475,6.35) 5(-11.475,5.842) 6(-11.475,5.334) 7(-11.475,4.826) 8(-11.475,4.318) 9(-11.475,3.81) 10(-11.475,3.302) 11(-11.475,2.794) 12(-11.475,2.286) 13(-11.475,1.778) 14(-11.475,1.27) 15(-11.475,0.762) 16(-11.475,0.254) 17(-11.475,-0.254) 18(-11.475,-0.762) 19(-11.475,-1.27) 20(-11.475,-1.778) 21(-11.475,-2.286) 22(-11.475,-2.794) 23(-11.475,-3.302) 24(-11.475,-3.81) 25(-11.475,-4.318) 26(-11.475,-4.826) 27(-11.475,-5.334) 28(-11.475,-5.842) 29(-11.475,-6.35) 30(-11.475,-6.858) 31(-11.475,-7.366) 32(-11.475,-7.874) 65(11.475,-7.874) 66(11.475,-7.366) 67(11.475,-6.858) 68(11.475,-6.35) 69(11.475,-5.842) 70(11.475,-5.334) 71(11.475,-4.826) 72(11.475,-4.318) 73(11.475,-3.81) 74(11.475,-3.302) 75(11.475,-2.794) 76(11.475,-2.286) 77(11.475,-1.778) 78(11.475,-1.27) 79(11.475,-0.762) 80(11.475,-0.254) 81(11.475,0.254) 82(11.475,0.762) 83(11.475,1.27) 84(11.475,1.778) 85(11.475,2.286) 86(11.475,2.794) 87(11.475,3.302) 88(11.475,3.81) 89(11.475,4.318) 90(11.475,4.826) 91(11.475,5.334) 92(11.475,5.842) 93(11.475,6.35) 94(11.475,6.858) 95(11.475,7.366) 96(11.475,7.874)
  oval 0.35x1.95 smd: 33(-7.874,-11.475) 34(-7.366,-11.475) 35(-6.858,-11.475) 36(-6.35,-11.475) 37(-5.842,-11.475) 38(-5.334,-11.475) 39(-4.826,-11.475) 40(-4.318,-11.475) 41(-3.81,-11.475) 42(-3.302,-11.475) 43(-2.794,-11.475) 44(-2.286,-11.475) 45(-1.778,-11.475) 46(-1.27,-11.475) 47(-0.762,-11.475) 48(-0.254,-11.475) 49(0.254,-11.475) 50(0.762,-11.475) 51(1.27,-11.475) 52(1.778,-11.475) 53(2.286,-11.475) 54(2.794,-11.475) 55(3.302,-11.475) 56(3.81,-11.475) 57(4.318,-11.475) 58(4.826,-11.475) 59(5.334,-11.475) 60(5.842,-11.475) 61(6.35,-11.475) 62(6.858,-11.475) 63(7.366,-11.475) 64(7.874,-11.475) 97(7.874,11.475) 98(7.366,11.475) 99(6.858,11.475) 100(6.35,11.475) 101(5.842,11.475) 102(5.334,11.475) 103(4.826,11.475) 104(4.318,11.475) 105(3.81,11.475) 106(3.302,11.475) 107(2.794,11.475) 108(2.286,11.475) 109(1.778,11.475) 110(1.27,11.475) 111(0.762,11.475) 112(0.254,11.475) 113(-0.254,11.475) 114(-0.762,11.475) 115(-1.27,11.475) 116(-1.778,11.475) 117(-2.286,11.475) 118(-2.794,11.475) 119(-3.302,11.475) 120(-3.81,11.475) 121(-4.318,11.475) 122(-4.826,11.475) 123(-5.334,11.475) 124(-5.842,11.475) 125(-6.35,11.475) 126(-6.858,11.475) 127(-7.366,11.475) 128(-7.874,11.475)
  rect 15.39x15.39 smd: 129(0,0)
via -7.15,7.15 diameter 0.5 hole 0.2
via -6.05,7.15 diameter 0.5 hole 0.2
via -4.95,7.15 diameter 0.5 hole 0.2
via -3.85,7.15 diameter 0.5 hole 0.2
via -2.75,7.15 diameter 0.5 hole 0.2
via -1.65,7.15 diameter 0.5 hole 0.2
via -0.55,7.15 diameter 0.5 hole 0.2
via 0.55,7.15 diameter 0.5 hole 0.2
via 1.65,7.15 diameter 0.5 hole 0.2
via 2.75,7.15 diameter 0.5 hole 0.2
via 3.85,7.15 diameter 0.5 hole 0.2
via 4.95,7.15 diameter 0.5 hole 0.2
via 6.05,7.15 diameter 0.5 hole 0.2
via 7.15,7.15 diameter 0.5 hole 0.2
via -7.15,6.05 diameter 0.5 hole 0.2
via -6.05,6.05 diameter 0.5 hole 0.2
via -4.95,6.05 diameter 0.5 hole 0.2
via -3.85,6.05 diameter 0.5 hole 0.2
via -2.75,6.05 diameter 0.5 hole 0.2
via -1.65,6.05 diameter 0.5 hole 0.2
via -0.55,6.05 diameter 0.5 hole 0.2
via 0.55,6.05 diameter 0.5 hole 0.2
via 1.65,6.05 diameter 0.5 hole 0.2
via 2.75,6.05 diameter 0.5 hole 0.2
via 3.85,6.05 diameter 0.5 hole 0.2
via 4.95,6.05 diameter 0.5 hole 0.2
via 6.05,6.05 diameter 0.5 hole 0.2
via 7.15,6.05 diameter 0.5 hole 0.2
via -7.15,4.95 diameter 0.5 hole 0.2
via -6.05,4.95 diameter 0.5 hole 0.2
via -4.95,4.95 diameter 0.5 hole 0.2
via -3.85,4.95 diameter 0.5 hole 0.2
via -2.75,4.95 diameter 0.5 hole 0.2
via -1.65,4.95 diameter 0.5 hole 0.2
via -0.55,4.95 diameter 0.5 hole 0.2
via 0.55,4.95 diameter 0.5 hole 0.2
via 1.65,4.95 diameter 0.5 hole 0.2
via 2.75,4.95 diameter 0.5 hole 0.2
via 3.85,4.95 diameter 0.5 hole 0.2
via 4.95,4.95 diameter 0.5 hole 0.2
via 6.05,4.95 diameter 0.5 hole 0.2
via 7.15,4.95 diameter 0.5 hole 0.2
via -7.15,3.85 diameter 0.5 hole 0.2
via -6.05,3.85 diameter 0.5 hole 0.2
via -4.95,3.85 diameter 0.5 hole 0.2
via -3.85,3.85 diameter 0.5 hole 0.2
via -2.75,3.85 diameter 0.5 hole 0.2
via -1.65,3.85 diameter 0.5 hole 0.2
via -0.55,3.85 diameter 0.5 hole 0.2
via 0.55,3.85 diameter 0.5 hole 0.2
via 1.65,3.85 diameter 0.5 hole 0.2
via 2.75,3.85 diameter 0.5 hole 0.2
via 3.85,3.85 diameter 0.5 hole 0.2
via 4.95,3.85 diameter 0.5 hole 0.2
via 6.05,3.85 diameter 0.5 hole 0.2
via 7.15,3.85 diameter 0.5 hole 0.2
via -7.15,2.75 diameter 0.5 hole 0.2
via -6.05,2.75 diameter 0.5 hole 0.2
via -4.95,2.75 diameter 0.5 hole 0.2
via -3.85,2.75 diameter 0.5 hole 0.2
via -2.75,2.75 diameter 0.5 hole 0.2
via -1.65,2.75 diameter 0.5 hole 0.2
via -0.55,2.75 diameter 0.5 hole 0.2
via 0.55,2.75 diameter 0.5 hole 0.2
via 1.65,2.75 diameter 0.5 hole 0.2
via 2.75,2.75 diameter 0.5 hole 0.2
via 3.85,2.75 diameter 0.5 hole 0.2
via 4.95,2.75 diameter 0.5 hole 0.2
via 6.05,2.75 diameter 0.5 hole 0.2
via 7.15,2.75 diameter 0.5 hole 0.2
via -7.15,1.65 diameter 0.5 hole 0.2
via -6.05,1.65 diameter 0.5 hole 0.2
via -4.95,1.65 diameter 0.5 hole 0.2
via -3.85,1.65 diameter 0.5 hole 0.2
via -2.75,1.65 diameter 0.5 hole 0.2
via -1.65,1.65 diameter 0.5 hole 0.2
via -0.55,1.65 diameter 0.5 hole 0.2
via 0.55,1.65 diameter 0.5 hole 0.2
via 1.65,1.65 diameter 0.5 hole 0.2
via 2.75,1.65 diameter 0.5 hole 0.2
via 3.85,1.65 diameter 0.5 hole 0.2
via 4.95,1.65 diameter 0.5 hole 0.2
via 6.05,1.65 diameter 0.5 hole 0.2
via 7.15,1.65 diameter 0.5 hole 0.2
via -7.15,0.55 diameter 0.5 hole 0.2
via -6.05,0.55 diameter 0.5 hole 0.2
via -4.95,0.55 diameter 0.5 hole 0.2
via -3.85,0.55 diameter 0.5 hole 0.2
via -2.75,0.55 diameter 0.5 hole 0.2
via -1.65,0.55 diameter 0.5 hole 0.2
via -0.55,0.55 diameter 0.5 hole 0.2
via 0.55,0.55 diameter 0.5 hole 0.2
via 1.65,0.55 diameter 0.5 hole 0.2
via 2.75,0.55 diameter 0.5 hole 0.2
via 3.85,0.55 diameter 0.5 hole 0.2
via 4.95,0.55 diameter 0.5 hole 0.2
via 6.05,0.55 diameter 0.5 hole 0.2
via 7.15,0.55 diameter 0.5 hole 0.2
via -7.15,-0.55 diameter 0.5 hole 0.2
via -6.05,-0.55 diameter 0.5 hole 0.2
via -4.95,-0.55 diameter 0.5 hole 0.2
via -3.85,-0.55 diameter 0.5 hole 0.2
via -2.75,-0.55 diameter 0.5 hole 0.2
via -1.65,-0.55 diameter 0.5 hole 0.2
via -0.55,-0.55 diameter 0.5 hole 0.2
via 0.55,-0.55 diameter 0.5 hole 0.2
via 1.65,-0.55 diameter 0.5 hole 0.2
via 2.75,-0.55 diameter 0.5 hole 0.2
via 3.85,-0.55 diameter 0.5 hole 0.2
via 4.95,-0.55 diameter 0.5 hole 0.2
via 6.05,-0.55 diameter 0.5 hole 0.2
via 7.15,-0.55 diameter 0.5 hole 0.2
via -7.15,-1.65 diameter 0.5 hole 0.2
via -6.05,-1.65 diameter 0.5 hole 0.2
via -4.95,-1.65 diameter 0.5 hole 0.2
via -3.85,-1.65 diameter 0.5 hole 0.2
via -2.75,-1.65 diameter 0.5 hole 0.2
via -1.65,-1.65 diameter 0.5 hole 0.2
via -0.55,-1.65 diameter 0.5 hole 0.2
via 0.55,-1.65 diameter 0.5 hole 0.2
via 1.65,-1.65 diameter 0.5 hole 0.2
via 2.75,-1.65 diameter 0.5 hole 0.2
via 3.85,-1.65 diameter 0.5 hole 0.2
via 4.95,-1.65 diameter 0.5 hole 0.2
via 6.05,-1.65 diameter 0.5 hole 0.2
via 7.15,-1.65 diameter 0.5 hole 0.2
via -7.15,-2.75 diameter 0.5 hole 0.2
via -6.05,-2.75 diameter 0.5 hole 0.2
via -4.95,-2.75 diameter 0.5 hole 0.2
via -3.85,-2.75 diameter 0.5 hole 0.2
via -2.75,-2.75 diameter 0.5 hole 0.2
via -1.65,-2.75 diameter 0.5 hole 0.2
via -0.55,-2.75 diameter 0.5 hole 0.2
via 0.55,-2.75 diameter 0.5 hole 0.2
via 1.65,-2.75 diameter 0.5 hole 0.2
via 2.75,-2.75 diameter 0.5 hole 0.2
via 3.85,-2.75 diameter 0.5 hole 0.2
via 4.95,-2.75 diameter 0.5 hole 0.2
via 6.05,-2.75 diameter 0.5 hole 0.2
via 7.15,-2.75 diameter 0.5 hole 0.2
via -7.15,-3.85 diameter 0.5 hole 0.2
via -6.05,-3.85 diameter 0.5 hole 0.2
via -4.95,-3.85 diameter 0.5 hole 0.2
via -3.85,-3.85 diameter 0.5 hole 0.2
via -2.75,-3.85 diameter 0.5 hole 0.2
via -1.65,-3.85 diameter 0.5 hole 0.2
via -0.55,-3.85 diameter 0.5 hole 0.2
via 0.55,-3.85 diameter 0.5 hole 0.2
via 1.65,-3.85 diameter 0.5 hole 0.2
via 2.75,-3.85 diameter 0.5 hole 0.2
via 3.85,-3.85 diameter 0.5 hole 0.2
via 4.95,-3.85 diameter 0.5 hole 0.2
via 6.05,-3.85 diameter 0.5 hole 0.2
via 7.15,-3.85 diameter 0.5 hole 0.2
via -7.15,-4.95 diameter 0.5 hole 0.2
via -6.05,-4.95 diameter 0.5 hole 0.2
via -4.95,-4.95 diameter 0.5 hole 0.2
via -3.85,-4.95 diameter 0.5 hole 0.2
via -2.75,-4.95 diameter 0.5 hole 0.2
via -1.65,-4.95 diameter 0.5 hole 0.2
via -0.55,-4.95 diameter 0.5 hole 0.2
via 0.55,-4.95 diameter 0.5 hole 0.2
via 1.65,-4.95 diameter 0.5 hole 0.2
via 2.75,-4.95 diameter 0.5 hole 0.2
via 3.85,-4.95 diameter 0.5 hole 0.2
via 4.95,-4.95 diameter 0.5 hole 0.2
via 6.05,-4.95 diameter 0.5 hole 0.2
via 7.15,-4.95 diameter 0.5 hole 0.2
via -7.15,-6.05 diameter 0.5 hole 0.2
via -6.05,-6.05 diameter 0.5 hole 0.2
via -4.95,-6.05 diameter 0.5 hole 0.2
via -3.85,-6.05 diameter 0.5 hole 0.2
via -2.75,-6.05 diameter 0.5 hole 0.2
via -1.65,-6.05 diameter 0.5 hole 0.2
via -0.55,-6.05 diameter 0.5 hole 0.2
via 0.55,-6.05 diameter 0.5 hole 0.2
via 1.65,-6.05 diameter 0.5 hole 0.2
via 2.75,-6.05 diameter 0.5 hole 0.2
via 3.85,-6.05 diameter 0.5 hole 0.2
via 4.95,-6.05 diameter 0.5 hole 0.2
via 6.05,-6.05 diameter 0.5 hole 0.2
via 7.15,-6.05 diameter 0.5 hole 0.2
via -7.15,-7.15 diameter 0.5 hole 0.2
via -6.05,-7.15 diameter 0.5 hole 0.2
via -4.95,-7.15 diameter 0.5 hole 0.2
via -3.85,-7.15 diameter 0.5 hole 0.2
via -2.75,-7.15 diameter 0.5 hole 0.2
via -1.65,-7.15 diameter 0.5 hole 0.2
via -0.55,-7.15 diameter 0.5 hole 0.2
via 0.55,-7.15 diameter 0.5 hole 0.2
via 1.65,-7.15 diameter 0.5 hole 0.2
via 2.75,-7.15 diameter 0.5 hole 0.2
via 3.85,-7.15 diameter 0.5 hole 0.2
via 4.95,-7.15 diameter 0.5 hole 0.2
via 6.05,-7.15 diameter 0.5 hole 0.2
via 7.15,-7.15 diameter 0.5 hole 0.2
Top Overlay:
  circle w0.25: c-11.475,8.599 r0.125
  lines w0.2: -10.1,-7.875 -10.1,7.875 -7.875,10.1 7.875,10.1 10.1,7.875 10.1,-7.875 7.875,-10.1 -7.875,-10.1 -10.1,-7.875
Mechanical 13:
  circle w0.1: c-8.88,8.88 r0.5
  lines w0.1: -9.78,-9.78 -9.78,9.78 9.78,9.78 9.78,-9.78 -9.78,-9.78
Mechanical 15:
  lines w0.05: -12.55,-12.55 -12.55,12.55 12.55,12.55 12.55,-12.55 -12.55,-12.55
  lines w0.1: -0.5,0 0.5,0 ; 0,-0.5 0,0.5
3D body: height 1.99, standoff 0, extent -9.78,-9.78 9.78,9.78